# Altium footprint library PIS150H471M.PcbLib: 1 footprints
Each footprint in its own frame and in the unit in brackets; x right, y up, seen from the top. Pads: shape width x height; smd on the part's side, far side on the other; paste and mask are expansions set on the pad; w line width, h text height; cw(c..) or ccw(c..) is an arc to the next point about the centre after c.
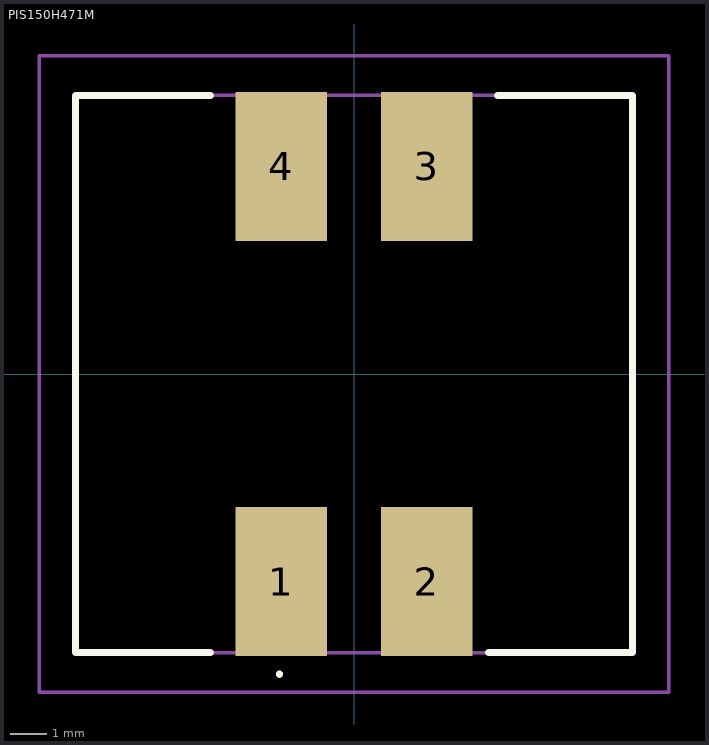
[diagram p0: the footprint, top view; thin cyan lines are the x and y axes]

## PIS150H471M [mm]
pads (4):
  rect 2.55x4.15 smd: 1(-2.025,-5.775) 2(2.025,-5.775) 3(2.025,5.775) 4(-2.025,5.775)
Top Overlay:
  lines w0.1: -2.075,-8.4 -2.075,-8.4 ; -2.075,-8.4 ccw(c-2.075,-8.35) -2.075,-8.3 ; -2.075,-8.4 cw(c-2.075,-8.35) -2.075,-8.3 ; -2.075,-8.3 -2.075,-8.3
  lines w0.2: -4,-7.75 -7.75,-7.75 -7.75,7.75 -4,7.75 ; 3.75,-7.75 7.75,-7.75 7.75,7.75 4,7.75 ; 4,7.75 4,7.75
Mechanical 15:
  lines w0.1: -7.75,-7.75 7.75,-7.75 7.75,7.75 -7.75,7.75 -7.75,-7.75
Mechanical 20:
  lines w0.1: -8.75,-8.85 8.75,-8.85 8.75,8.85 -8.75,8.85 -8.75,-8.85